# Altium footprint library DIPS762W70P254L3556H530Q28N.PcbLib: 1 footprints
Each footprint in its own frame and in the unit in brackets; x right, y up, seen from the top. Pads: shape width x height; smd on the part's side, far side on the other; paste and mask are expansions set on the pad; w line width, h text height; cw(c..) or ccw(c..) is an arc to the next point about the centre after c.
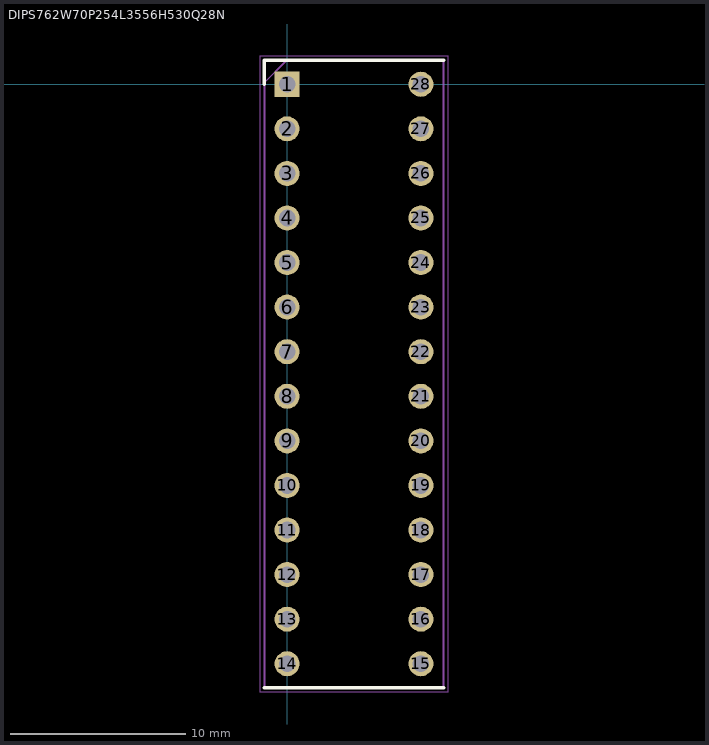
[diagram p0: the footprint, top view; thin cyan lines are the x and y axes]

## DIPS762W70P254L3556H530Q28N [mm]
pads (28):
  rect 1.425x1.425 / inner round 1.425 / far side rect 1.425x1.425 hole 0.95: 1(0,0)
  round 1.425 hole 0.95: 2(0,-2.54) 3(0,-5.08) 4(0,-7.62) 5(0,-10.16) 6(0,-12.7) 7(0,-15.24) 8(0,-17.78) 9(0,-20.32) 10(0,-22.86) 11(0,-25.4) 12(0,-27.94) 13(0,-30.48) 14(0,-33.02) 15(7.62,-33.02) 16(7.62,-30.48) 17(7.62,-27.94) 18(7.62,-25.4) 19(7.62,-22.86) 20(7.62,-20.32) 21(7.62,-17.78) 22(7.62,-15.24) 23(7.62,-12.7) 24(7.62,-10.16) 25(7.62,-7.62) 26(7.62,-5.08) 27(7.62,-2.54) 28(7.62,0)
Top Overlay:
  lines w0.2: -1.29,-34.39 8.91,-34.39 ; -1.29,0 -1.29,1.37 8.91,1.37
Mechanical 15:
  lines w0.1: -1.29,0.1 -0.02,1.37 ; -1.29,-34.39 8.91,-34.39 8.91,1.37 -1.29,1.37 -1.29,-34.39
Mechanical 20:
  lines w0.05: -1.54,-34.64 9.16,-34.64 9.16,1.62 -1.54,1.62 -1.54,-34.64